# Altium footprint library PcbLib1.PcbLib: 1 footprints
Each footprint in its own frame and in the unit in brackets; x right, y up, seen from the top. Pads: shape width x height; smd on the part's side, far side on the other; paste and mask are expansions set on the pad; w line width, h text height; cw(c..) or ccw(c..) is an arc to the next point about the centre after c.
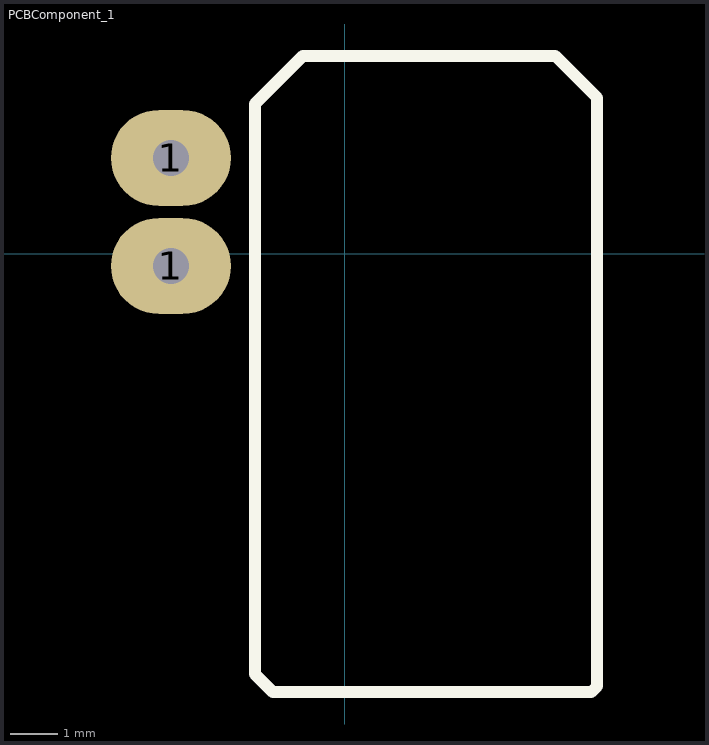
[diagram p0: the footprint, top view; thin cyan lines are the x and y axes]

## PCBComponent_1 [mil]
pads (2):
  oval 100x80 hole 30: 1(-145,-10) 1(-145,80)
Top Overlay:
  lines w10: -75,-350 -75,125 -35,165 175,165 210,130 210,-360 205,-365 -60,-365 -75,-350